# EAGLE library part LM3822 (library active)
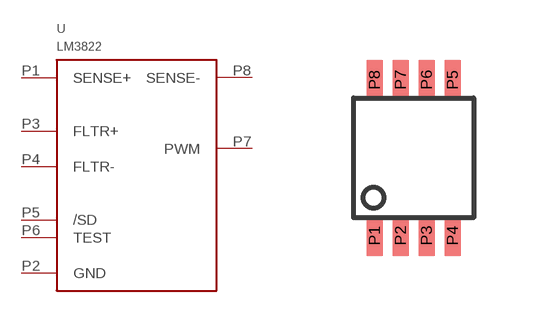
[diagram p2: symbol with the pads of MSOP8; footprint MSOP8]

Designator prefix U

## LM3822  [MSOP8]
P1  SENSE+  pwr
P2  GND  pwr
P3  FLTR+
P4  FLTR-
P5  /SD  in
P6  TEST  in
P7  PWM  out
P8  SENSE-  pwr

## Footprint MSOP8 (pad centres in mm)
smd 0.4 x 1: P1 -0.975,-1.95; P2 -0.325,-1.95; P3 0.325,-1.95; P4 0.975,-1.95; P5 0.975,1.95; P6 0.325,1.95; P7 -0.325,1.95; P8 -0.975,1.95